# Altium schematic symbol library CoinCell.SchLib: 1 symbol
Pins are listed as number, name and electrical type; pins without a type are passive.

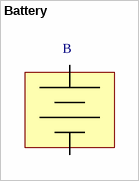
[diagram p0: symbol Battery]

## Battery
designator B  value 3V  (hidden comment: *)
footprint Coin Cell (Footprint not found)
footprint CR2032-1
pins: 1 +, 2 +